# Altium schematic symbol library 74HC4067BQ.SchLib: 1 symbol
Pins are listed as number, name and electrical type; pins without a type are passive.

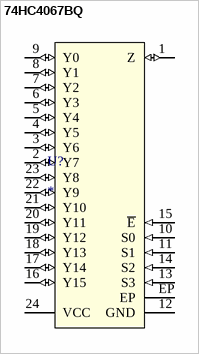
[diagram p0: symbol 74HC4067BQ]

## 74HC4067BQ
designator U?
pins: 1 Z (io), 2 Y7 (io), 3 Y6 (io), 4 Y5 (io), 5 Y4 (io), 6 Y3 (io), 7 Y2 (io), 8 Y1 (io), 9 Y0 (io), 10 S0 (in), 11 S1 (in), 12 GND, 13 S3 (in), 14 S2 (in), 15 ~{E} (in), 16 Y15 (io), 17 Y14 (io), 18 Y13 (io), 19 Y12 (io), 20 Y11 (io), 21 Y10 (io), 22 Y9 (io), 23 Y8 (io), 24 VCC, EP